# EAGLE library part 050_610_?-10/20 (library con-sullinselectronics)
.050 DIP EDGE CARD CONNECTOR .050 [1.27mm] CONTACT CENTERS .610" INSULATEOR HEIGHT Source: .050 DIP EDGE CARD.pdf
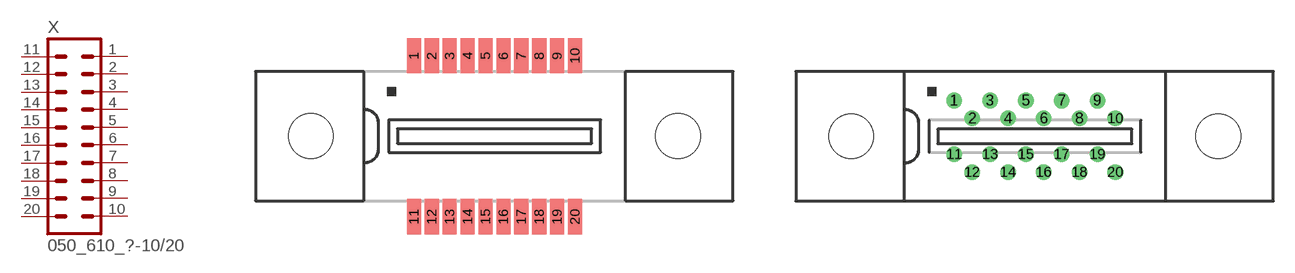
[diagram p1: symbol with the pads of 050_610_HF-10/20; footprints 050_610_HF-10/20, 050_610_HH-10/20]

Designator prefix X

## 050_610_HF-10/20 (OC_FARNELL: unknown; OC_NEWARK: unknown)  [050_610_HF-10/20]
1  1  pas
2  2  pas
3  3  pas
4  4  pas
5  5  pas
6  6  pas
7  7  pas
8  8  pas
9  9  pas
10  10  pas
11  11  pas
12  12  pas
13  13  pas
14  14  pas
15  15  pas
16  16  pas
17  17  pas
18  18  pas
19  19  pas
20  20  pas

## 050_610_HH-10/20 (OC_FARNELL: unknown; OC_NEWARK: unknown)  [050_610_HH-10/20]
Pads as for 050_610_HF-10/20

## Footprint 050_610_HF-10/20 (pad centres in mm)
.050 DIP EDGE CARD CONNECTOR SURFACE MOUNT .050 [1.27mm] CONTACT CENTERS .610" INSULATEOR HEIGHT Source: .050 DIP EDGE CARD.pdf
smd 1 x 2.5: 1 -5.715,5.715; 2 -4.445,5.715; 3 -3.175,5.715; 4 -1.905,5.715; 5 -0.635,5.715; 6 0.635,5.715; 7 1.905,5.715; 8 3.175,5.715; 9 4.445,5.715; 10 5.715,5.715; 11 -5.715,-5.715; 12 -4.445,-5.715; 13 -3.175,-5.715; 14 -1.905,-5.715; 15 -0.635,-5.715; 16 0.635,-5.715; 17 1.905,-5.715; 18 3.175,-5.715; 19 4.445,-5.715; 20 5.715,-5.715
hole 3.18 at -13.03,0
hole 3.18 at 13.03,0

## Footprint 050_610_HH-10/20 (pad centres in mm)
.050 DIP EDGE CARD CONNECTOR STAGGERED DIP SOLDER .050 [1.27mm] CONTACT CENTERS .610" INSULATEOR HEIGHT Source: .050 DIP EDGE CARD.pdf
drill 0.6 pad 1 round: 1 -5.715,2.54; 2 -4.445,1.27; 3 -3.175,2.54; 4 -1.905,1.27; 5 -0.635,2.54; 6 0.635,1.27; 7 1.905,2.54; 8 3.175,1.27; 9 4.445,2.54; 10 5.715,1.27; 11 -5.715,-1.27; 12 -4.445,-2.54; 13 -3.175,-1.27; 14 -1.905,-2.54; 15 -0.635,-1.27; 16 0.635,-2.54; 17 1.905,-1.27; 18 3.175,-2.54; 19 4.445,-1.27; 20 5.715,-2.54
hole 3.18 at -13.03,0
hole 3.18 at 13.03,0